# EAGLE library part TXS0102 (library booz)
2-Bit Bidirectional Voltage-Level Translator for Open-Drain Application
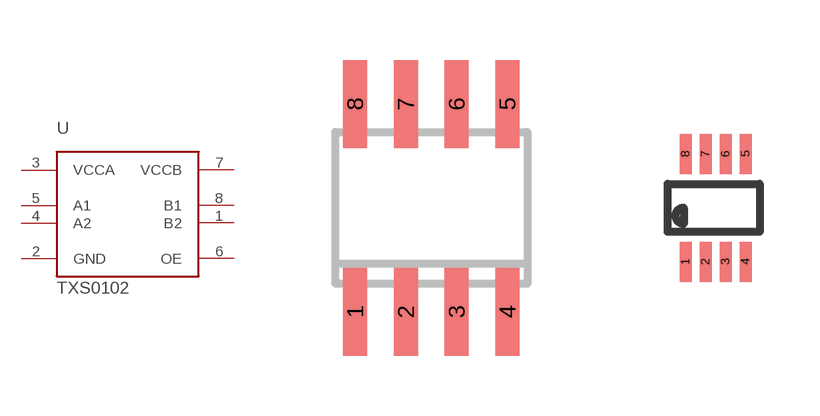
[diagram p4: symbol with the pads of SO8; footprints SO8, US8]

Designator prefix -

## TXS0102SO8  [SO8]
1  B2
2  GND
3  VCCA
4  A2
5  A1
6  OE
7  VCCB
8  B1

## TXS0102DCU  [US8]
Pads as for SO8

## Footprint SO8 (pad centres in mm)
SMALL OUTLINE INTEGRATED CIRCUIT
smd 0.6 x 2.2: 1 -1.905,-2.6; 2 -0.635,-2.6; 3 0.635,-2.6; 4 1.905,-2.6; 5 1.905,2.6; 6 0.635,2.6; 7 -0.635,2.6; 8 -1.905,2.6

## Footprint US8 (pad centres in mm)
smd 0.3 x 1: 1 -0.75,-1.35; 2 -0.25,-1.35; 3 0.25,-1.35; 4 0.75,-1.35; 5 0.75,1.35; 6 0.25,1.35; 7 -0.25,1.35; 8 -0.75,1.35